# Altium schematic symbol library project_Sch.SchLib: 12 symbols
Pins are listed as number, name and electrical type; pins without a type are passive.

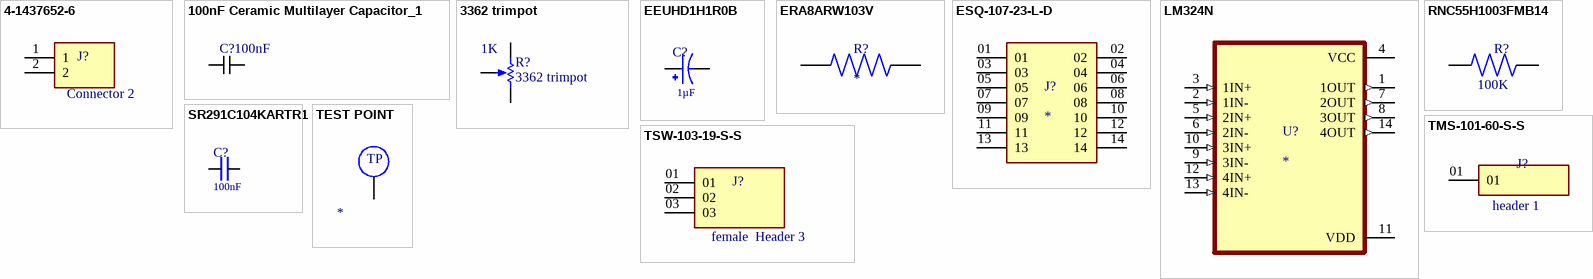
[diagram p0: symbols 4-1437652-6 to TSW-103-19-S-S]

## 4-1437652-6
designator J?  value Connector 2  (hidden comment: *)
Conn Terminal Block 2 POS 9.53mm Solder ST Thru-Hole 25A/Contact; MF: TE Connectivity / AMP; MP: 4-1437652-6; SnapEDA_Link: https://www.snapeda.com/parts/4-1437652-6/TE%20Connectivity%20/%20AMP/view-part/2382815/?ref=snap; Availability: Unavailable; Price: None; EU_RoHS_Compliance: Compliant; Package: None; TE_purchase_URL: https://www.te.com/usa-en/product-4-1437652-6.html?te_bu=Cor&te_type=disp&te_campaign=seda_glo_cor-seda-global-disp-prtnr-fy19-seda-model-bom-cta_sma-317_1&elqCampaignId=32493
footprint TE_4-1437652-6
pins: 1, 2

## 100nF Ceramic Multilayer Capacitor_1
designator C?  Capacitance: 100nF  (hidden comment: 100nF Ceramic Multilayer Capacitor_1)
AVX 0805 Standard 100nF Ceramic Multilayer Capacitor, 50 V dc X7R Dielectric ±10% SMD; Voltage: 50V; Creator: Ritesh Kanjee; Date Created: 18 February 2015; Package: 0805; Manufacturer: AVX; RS Stock No.: 464-6688; Datasheet URL: http://za.rs-online.com/web/p/ceramic-multilayer-capacitors/4646688/
footprint CAPCP2012X09N (Chip Capacitor, 2-Leads, Body 2.00x1.25mm, IPC Medium Density)
pins: 1, 2

## 3362 trimpot
designator R?  value 1K
3362M Timpot; Sim Note: Enter the Resistance value and the set point into parameter fields.; Set Position: 0.5; Published: 8-Jun-2000; LatestRevisionDate: 17-Jul-2002; LatestRevisionNote: Re-released for DXP Platform.; PackageReference: VR5; Publisher: Altium Limited; PackageDescription: Variable Resistor, Thru-Hole; 3 Leads
footprint 33262M trimpot (Thru-Hole; 3 Leads)
pins: 1 TOP, 2 BOT, 3 TAP
1 alternate drawing of the same symbol

## EEUHD1H1R0B
designator C?  value 1µF  (hidden comment: *)
Cap Aluminum Lytic 1uF 50V 20% (5 X 11mm) Radial 5mm 10mA 1000h 105Â°C Automotive Ammo; MF: Panasonic; MP: EEUHD1H1R0B; Package: RADIAL-2 Panasonic; Price: None; Check_prices: https://www.snapeda.com/parts/EEUHD1H1R0B/Panasonic/view-part/5786221/?ref=eda; SnapEDA_Link: https://www.snapeda.com/parts/EEUHD1H1R0B/Panasonic/view-part/5786221/?ref=snap; Availability: In Stock
footprint CAPPRD500W50D500H1100
pins: N, P

## ERA8ARW103V
designator R?
MP: ERA8ARW103V; Availability: Unavailable; Package: None; Price: None; Value: *
footprint RES_ERA8ARW103V
pins: 1, 2

## ESQ-107-23-L-D
designator J?
MP: ESQ-107-23-L-D; Price: None; Value: *; Package: None; Availability: Unavailable
footprint SAMTEC_ESQ-107-23-L-D
pins: 01, 02, 03, 04, 05, 06, 07, 08, 09, 10, 11, 12, 13, 14

## LM324N
designator U?
General Purpose Amplifier 4 Circuit - 14-MDIP; MP: LM324N; MF: ON Semiconductor; SnapEDA_Link: https://www.snapeda.com/parts/LM324N/Onsemi/view-part/?ref=snap; Package: DIP-14 Motorola; Check_prices: https://www.snapeda.com/parts/LM324N/Onsemi/view-part/?ref=eda; Purchase-URL: https://pricing.snapeda.com/search/part/LM324N/?ref=eda; Price: None; Value: *; Availability: In Stock
footprint DIP794W45P254L1969H508Q14
pins: 1 1OUT (out), 2 1IN- (in), 3 1IN+ (in), 4 VCC (power), 5 2IN+ (in), 6 2IN- (in), 7 2OUT (out), 8 3OUT (out), 9 3IN- (in), 10 3IN+ (in), 11 VDD (power), 12 4IN+ (in), 13 4IN- (in), 14 4OUT (out)

## RNC55H1003FMB14
designator R?  value 100K  (hidden comment: *)
RES 100K OHM 1/8W 1% AXIAL; MP: RNC55H1003FMB14; MF: Vishay Dale; SnapEDA_Link: https://www.snapeda.com/parts/RNC55H1003FMB14/Vishay+Dale/view-part/?ref=snap; Availability: In Stock; Check_prices: https://www.snapeda.com/parts/RNC55H1003FMB14/Vishay+Dale/view-part/?ref=eda; Package: None; Price: None; Purchase-URL: https://pricing.snapeda.com/search/part/RNC55H1003FMB14/?ref=eda
footprint RESAD1081W64L635D269
pins: 1, 2

## SR291C104KARTR1
designator C?  value 100nF  (hidden comment: *)
Capacitor, Ceramic, 100nF, 100VDC, 10-% Tol, 10+% Tol, X7R-TC Code, -15, 15%-TC; MF: AVX; MP: SR291C104KARTR1; SnapEDA_Link: https://www.snapeda.com/parts/SR291C104KARTR1/AVX/view-part/?ref=snap; Package: Radial AVX; Check_prices: https://www.snapeda.com/parts/SR291C104KARTR1/AVX/view-part/?ref=eda
footprint CAPRR254W50L508T317H508
pins: 1, 2

## TEST POINT
designator TEST POINT  (no BOM)
footprint TEST POINT
pins: 1
text: TP

## TMS-101-60-S-S
designator J?  value header 1  (hidden comment: *)
MP: TMS-101-60-S-S; Package: None; Price: None; Availability: Unavailable
footprint SAMTEC_TMS-101-60-S-S
pins: 01

## TSW-103-19-S-S
designator J?  value female  Header 3  (hidden comment: *)
MP: TSW-103-19-S-S; Package: None; Price: None; Availability: Unavailable
footprint SAMTEC_TSW-103-19-S-S
pins: 01, 02, 03